# EAGLE library part 24-* (library MCP1710T-piggy)
Serial EEPROM 32 K/64 K, 1.8 V, I2C
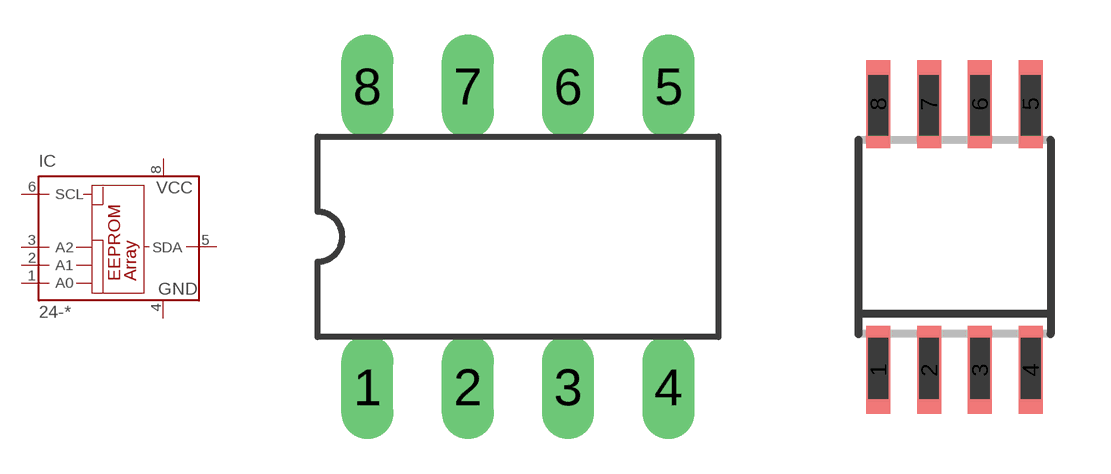
[diagram p47: symbol with the pads of DIL8; footprints DIL8, SO-08M]

Designator prefix IC

## 24-AA65P, 24-C32P, 24-C65P, 24-FC32P, 24-FC65P, 24-LC32P, 24-LC65P  [DIL8]
1  A0  in
2  A1  in
3  A2  in
4  GND  pwr
5  SDA
6  SCL  in
8  VCC  pwr

## 24-AA65SM, 24-C32SM, 24-C65SM, 24-FC32SM, 24-FC65SM, 24-LC32SM, 24-LC65SM  [SO-08M]
Pads as for DIL8

## Footprint DIL8 (pad centres in mm)
Dual In Line package type P
drill 0.813 long: 1 -3.81,-3.81; 2 -1.27,-3.81; 3 1.27,-3.81; 4 3.81,-3.81; 5 3.81,3.81; 6 1.27,3.81; 7 -1.27,3.81; 8 -3.81,3.81

## Footprint SO-08M (pad centres in mm)
Small Outline Medium Plastic Gull Wing 207-mil body, package type SM
smd 0.6 x 2.2: 1 -1.905,-3.33; 2 -0.635,-3.33; 3 0.635,-3.33; 4 1.905,-3.33; 5 1.905,3.33; 6 0.635,3.33; 7 -0.635,3.33; 8 -1.905,3.33